# Altium footprint library DIOC200X125X110.PcbLib: 1 footprints
Each footprint in its own frame and in the unit in brackets; x right, y up, seen from the top. Pads: shape width x height; smd on the part's side, far side on the other; paste and mask are expansions set on the pad; w line width, h text height; cw(c..) or ccw(c..) is an arc to the next point about the centre after c.
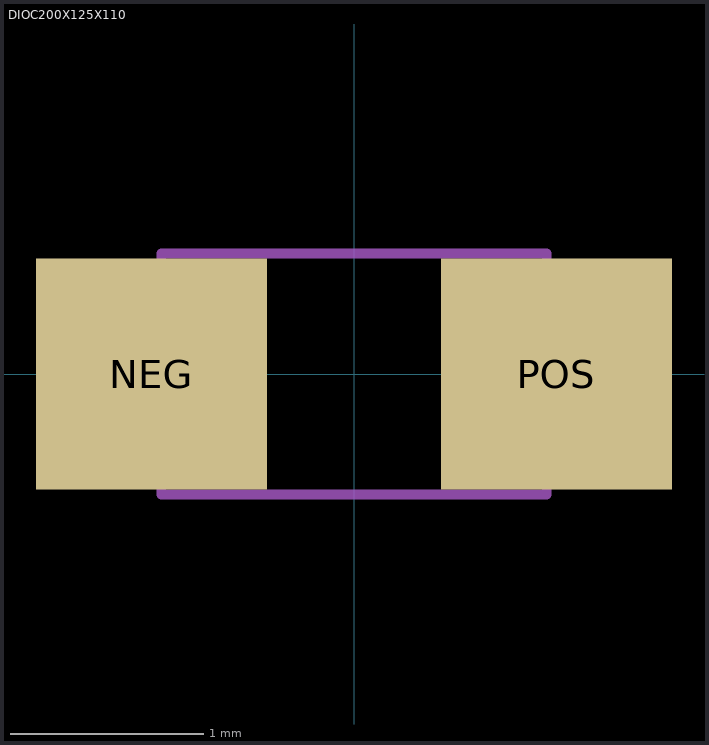
[diagram p0: the footprint, top view; thin cyan lines are the x and y axes]

## DIOC200X125X110 [mm]
pads (2):
  rect 1.2x1.2 smd: NEG(-1.05,0) POS(1.05,0)
Mechanical 13:
  region: -0.8,-0.1 -1.001,-0.1 -1.001,0.1 -0.8,0.1
  lines w0.05: -1,-0.625 1,-0.625 1,0.625 -1,0.625 -1,-0.625